# Altium schematic symbol library 1622264-1.SchLib: 1 symbol
Pins are listed as number, name and electrical type; pins without a type are passive.

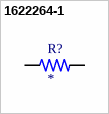
[diagram p0: symbol 1622264-1]

## 1622264-1
designator R?
LR0204 1% 62K; MP: 1622264-1; MF: {'manufacturer': u'TE Connectivity'}; Package: None; Price: None; Availability: Unavailable; Value: *
footprint RESAD640W45L370D200
pins: 1, 2